# EAGLE library part RJ6_COUDE (library robotter_connector)
ref tyco : 1-1705950-1
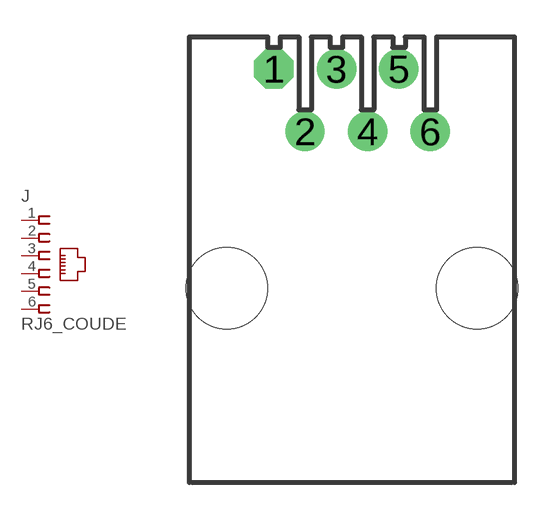
[diagram p1: symbol with the pads of 1-1705950-1; footprint 1-1705950-1]

Designator prefix J

## RJ6_COUDE  [1-1705950-1]
1  1  pas
2  2  pas
3  3  pas
4  4  pas
5  5  pas
6  6  pas

## Footprint 1-1705950-1 (pad centres in mm)
drill 1 pad 1.6 octagon: 1 -3.18,8.9
drill 1 pad 1.6: 2 -1.91,6.36; 3 -0.63,8.9; 4 0.63,6.36; 5 1.9,8.9; 6 3.17,6.36
hole 3.3 at -5.08,0
hole 3.3 at 5.08,0